# EAGLE library part LT3021-SO8 (library Neel)
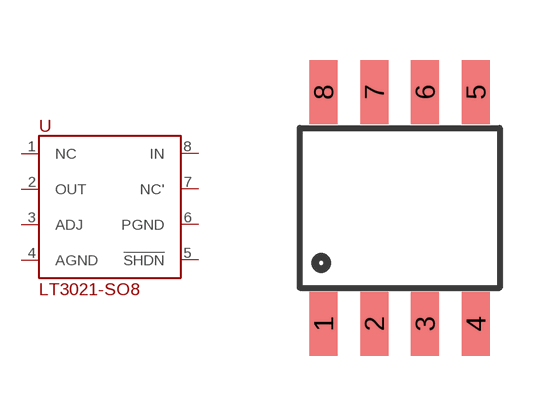
[diagram p19: symbol with the pads of SO-8; footprint SO-8]

Designator prefix -

## LT3021-SO8  [SO-8]
1  NC
2  OUT
3  ADJ
4  AGND
5  !SHDN
6  PGND
7  NC'
8  IN

## Footprint SO-8 (pad centres in mm)
smd 0.7 x 1.6: 1 -1.905,-2.9; 2 -0.635,-2.9; 3 0.635,-2.9; 4 1.905,-2.9; 5 1.905,2.9; 6 0.635,2.9; 7 -0.635,2.9; 8 -1.905,2.9